# Altium footprint library SON35P100X140X40-8N.PcbLib: 1 footprints
Each footprint in its own frame and in the unit in brackets; x right, y up, seen from the top. Pads: shape width x height; smd on the part's side, far side on the other; paste and mask are expansions set on the pad; w line width, h text height; cw(c..) or ccw(c..) is an arc to the next point about the centre after c.
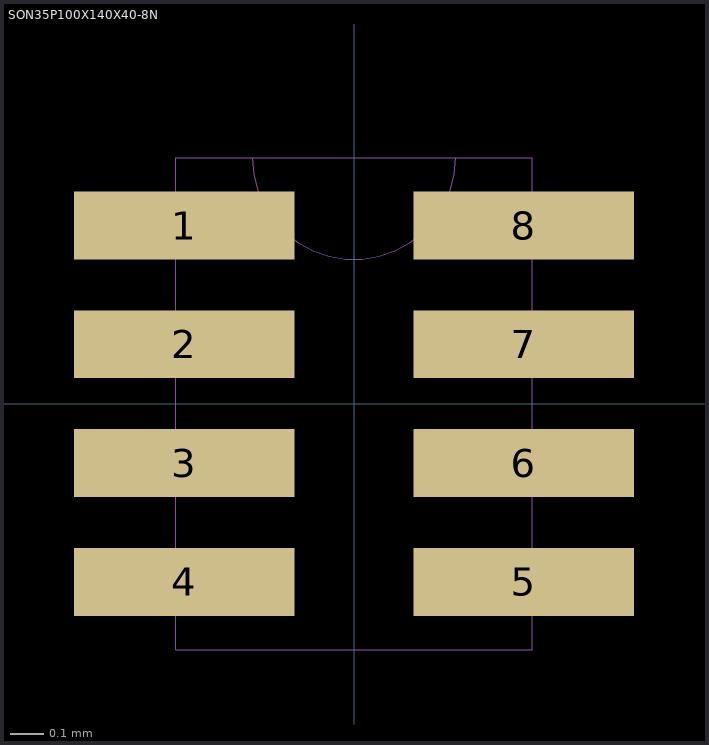
[diagram p0: the footprint, top view; thin cyan lines are the x and y axes]

## SON35P100X140X40-8N [mil]
pads (8):
  rect 26x8 smd: 1(-20,21) 2(-20,7) 3(-20,-7) 4(-20,-21) 5(20,-21) 6(20,-7) 7(20,7) 8(20,21)
Mechanical 4:
  lines w0: -21,-29 21,-29 ; -21,-29 -21,29 ; -21,-29 21,-29 ; -21,-29 -21,29 ; -21,29 -12,29 ; -21,29 -12,29 ; -12,29 ccw(c0,29) 12,29 ; -12,29 ccw(c0,29) 12,29 ; -12,29 12,29 ; -12,29 12,29 ; 12,29 21,29 ; 12,29 21,29 ; 21,-29 21,29 ; 21,-29 21,29